# Altium schematic symbol library IC Singlegate Logic.SchLib: 29 symbols
Pins are listed as number, name and electrical type; pins without a type are passive.

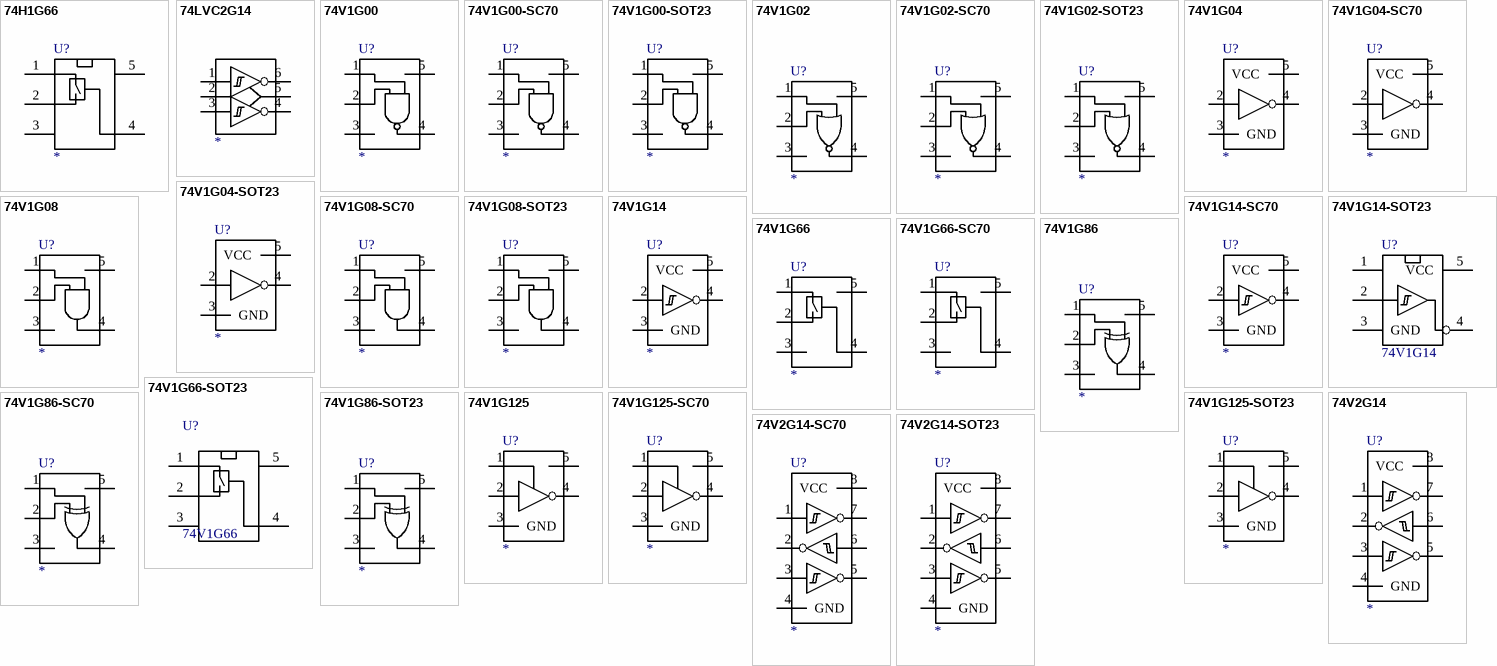
[diagram p0: symbols 74H1G66 to 74V2G14-SOT23]

## 74H1G66
designator U?
SINGLEGATE CMOS SWITCH SPST; Supplier 1: Digi-Key; Supplier Part Number 1: 497-1245-2-ND
footprint SOT23-5
pins: 1, 2, 3, 4, 5

## 74LVC2G14
designator ?
footprint SOT23-6
pins: 1, 2, 3, 4, 5, 6

## 74V1G00
designator U?
SINGLE GATE INVERTER
footprint SOT23-5
pins: 1, 2, 3, 4, 5

## 74V1G00-SC70
designator U?
SINGLE GATE INVERTER
footprint SOT23-5
pins: 1, 2, 3, 4, 5

## 74V1G00-SOT23
designator U?
SINGLE GATE INVERTER
footprint SOT23-5
pins: 1, 2, 3, 4, 5

## 74V1G02
designator U?
SINGLE GATE INVERTER
footprint SOT23-5
pins: 1, 2, 3, 4, 5

## 74V1G02-SC70
designator U?
SINGLE GATE INVERTER
footprint SOT23-5
pins: 1, 2, 3, 4, 5

## 74V1G02-SOT23
designator U?
SINGLE GATE INVERTER
footprint SOT23-5
pins: 1, 2, 3, 4, 5

## 74V1G04
designator U?
SINGLE GATE INVERTER
footprint SOT23-5
pins: 2, 3 GND, 4, 5 VCC

## 74V1G04-SC70
designator U?
SINGLE GATE INVERTER
footprint SOT23-5
pins: 2, 3 GND, 4, 5 VCC

## 74V1G04-SOT23
designator U?
SINGLE GATE INVERTER
footprint SOT23-5
pins: 2, 3 GND, 4, 5 VCC

## 74V1G08
designator U?
SINGLE GATE INVERTER
footprint SOT23-5
pins: 1, 2, 3, 4, 5

## 74V1G08-SC70
designator U?
SINGLE GATE INVERTER
footprint SOT23-5
pins: 1, 2, 3, 4, 5

## 74V1G08-SOT23
designator U?
SINGLE GATE INVERTER
footprint SOT23-5
pins: 1, 2, 3, 4, 5

## 74V1G14
designator U?
SINGLE GATE SCHMITTTRIGGER
footprint SOT23-5
pins: 2, 3 GND, 4, 5 VCC

## 74V1G14-SC70
designator U?
SINGLE GATE SCHMITTTRIGGER
footprint SOT23-5
pins: 2, 3 GND, 4, 5 VCC

## 74V1G14-SOT23
designator U?, comment 74V1G14
SINGLE GATE SCHMITTTRIGGER; Supplier 1: Digi-Key; Supplier Part Number 1: 497-1270-2-ND
footprint SOT23-5
pins: 1, 2, 3 GND, 4, 5 VCC

## 74V1G66
designator U?
SINGLE GATE INVERTER
footprint SOT23-5
pins: 1, 2, 3, 4, 5

## 74V1G66-SC70
designator U?
SINGLE GATE INVERTER
footprint SOT23-5
pins: 1, 2, 3, 4, 5

## 74V1G66-SOT23
designator U?, comment 74V1G66
SINGLE GATE INVERTER; Supplier 1: Digi-Key; Supplier Part Number 1: 497-1273-1-ND
footprint SOT23-5
pins: 1, 2, 3, 4, 5

## 74V1G86
designator U?
SINGLE GATE INVERTER
footprint SOT23-5
pins: 1, 2, 3, 4, 5

## 74V1G86-SC70
designator U?
SINGLE GATE INVERTER
footprint SOT23-5
pins: 1, 2, 3, 4, 5

## 74V1G86-SOT23
designator U?
SINGLE GATE INVERTER
footprint SOT23-5
pins: 1, 2, 3, 4, 5

## 74V1G125
designator U?
SINGLE GATE SCHMITTTRIGGER
footprint SOT23-5
pins: 1 ~{G}, 2, 3 GND, 4, 5 +

## 74V1G125-SC70
designator U?
SINGLE GATE SCHMITTTRIGGER
footprint SOT23-5
pins: 1 ~{G}, 2, 3 GND, 4, 5 +

## 74V1G125-SOT23
designator U?
SINGLE GATE SCHMITTTRIGGER
footprint SOT23-5
pins: 1 ~{G}, 2, 3 GND, 4, 5 +

## 74V2G14
designator U?
TRIPLE GATE SCHMITTTRIGGER
footprint SOT23-8
pins: 1, 2, 3, 4 GND, 5, 6, 7, 8 VCC

## 74V2G14-SC70
designator U?
TRIPLE GATE SCHMITTTRIGGER
footprint SOT23-8
pins: 1, 2, 3, 4 GND, 5, 6, 7, 8 VCC

## 74V2G14-SOT23
designator U?
TRIPLE GATE SCHMITTTRIGGER
footprint SOT23-8
pins: 1, 2, 3, 4 GND, 5, 6, 7, 8 VCC